# Altium schematic symbol library Schlib_header13.SchLib: 1 symbol
Pins are listed as number, name and electrical type; pins without a type are passive.

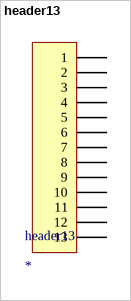
[diagram p0: symbol header13]

## header13
designator header13
footprint header13
pins: 1, 2, 3, 4, 5, 6, 7, 8, 9, 10, 11, 12, 13